# Altium schematic symbol library SCH - CONNECTORS - Rosenberger D4S2UL-40MA5-Y.Schlib: 1 symbol
Pins are listed as number, name and electrical type; pins without a type are passive.

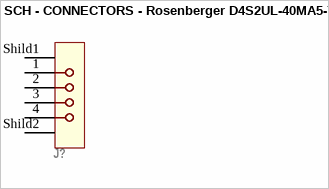
[diagram p0: symbol SCH - CONNECTORS - Rosenberger D4S2UL-40MA5-Y]

## SCH - CONNECTORS - Rosenberger D4S2UL-40MA5-Y
designator J?
footprint MB215
pins: 1, 2, 3, 4, Shild1, Shild2